# Altium schematic symbol library Resistors.SchLib: 63 symbols
Pins are listed as number, name and electrical type; pins without a type are passive.

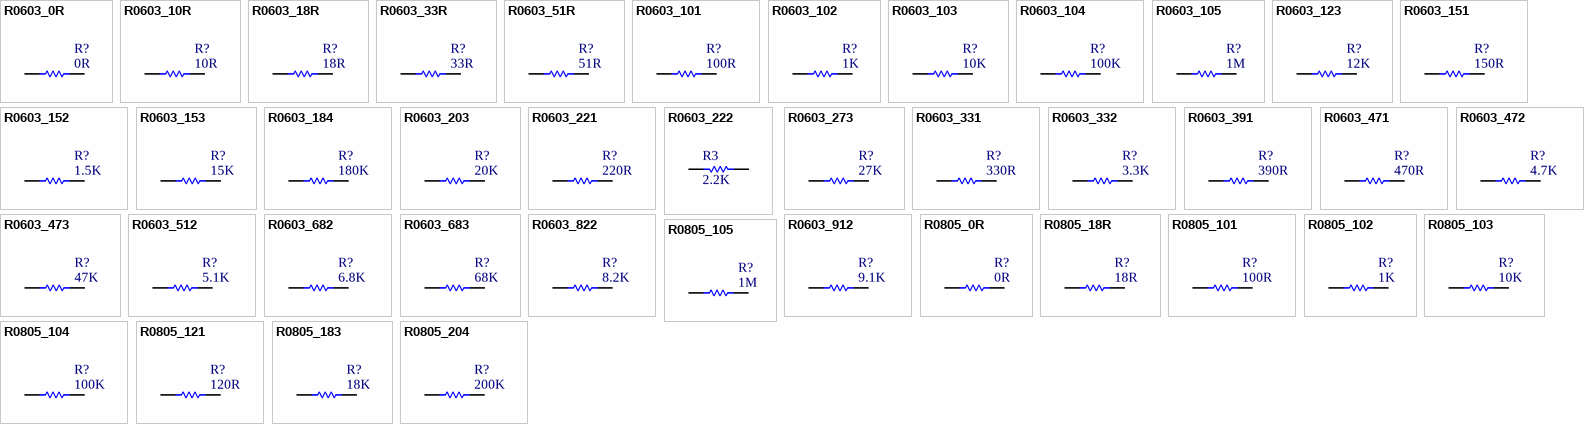
[diagram p0: symbols R0603_0R to R0805_204]

## R0603_0R
designator R?, comment 0R
Resistor smd 0603 0 Ohm; MFG: YAGEO; MFG P/N: RC0603FR-070RL; Anunda_Code: M0195; Price: 0.4; Supplier: Digikey; Value: 0R
simulation model RES (Semiconductor Resistor)
signal-integrity model Res Semi
footprint R0603XS (Chip Resistor; Body 1.6 x 0.8 mm (LxW typ))
pins: 1, 2

## R0603_10R
designator R?, comment 10R
Resistor smd 0603 10 Ohm; MFG: Stackpole Electronics Inc; MFG P/N: RMCF0603FT10R0; Anunda_Code: M0193; Price: 0.4; Supplier: Digikey; Value: 10R
simulation model RES (Semiconductor Resistor)
signal-integrity model Res Semi
footprint R0603XS (Chip Resistor; Body 1.6 x 0.8 mm (LxW typ))
pins: 1, 2

## R0603_18R
designator R?, comment 18R
Resistor smd 0603 18 Ohm; MFG: YAGEO; MFG P/N: RC0603FR-0718RL; Anunda_Code: M0630; Price: 0.4; Supplier: Digikey; Value: 18R
simulation model RES (Semiconductor Resistor)
signal-integrity model Res Semi
footprint R0603XS (Chip Resistor; Body 1.6 x 0.8 mm (LxW typ))
pins: 1, 2

## R0603_33R
designator R?, comment 33R
Resistor smd 0603 33 Ohm; MFG: Panasonic Electronic Components; MFG P/N: ERJ-3EKF33R0V; Anunda_Code: M0697; Price: 0.4; Supplier: Digikey; Value: 33R
simulation model RES (Semiconductor Resistor)
signal-integrity model Res Semi
footprint R0603XS (Chip Resistor; Body 1.6 x 0.8 mm (LxW typ))
pins: 1, 2

## R0603_51R
designator R?, comment 51R
Resistor smd 0603 51 Ohm; MFG: Panasonic Electronic Components; MFG P/N: ERJ-3EKF51R0V; Anunda_Code: M0187; Price: 0.4; Supplier: Digikey; Value: 51R
simulation model RES (Semiconductor Resistor)
signal-integrity model Res Semi
footprint R0603XS (Chip Resistor; Body 1.6 x 0.8 mm (LxW typ))
pins: 1, 2

## R0603_101
designator R?, comment 100R
Resistor smd 0603 100 Ohm; MFG: Panasonic Electronic Components; MFG P/N: ERJ-3EKF1000V; Anunda_Code: M1032; Price: 0.4; Supplier: Digikey; Value: 100R
simulation model RES (Semiconductor Resistor)
signal-integrity model Res Semi
footprint R0603XS (Chip Resistor; Body 1.6 x 0.8 mm (LxW typ))
pins: 1, 2

## R0603_102
designator R?, comment 1K
Resistor smd 0603 1 kOhm; MFG: YAGEO; MFG P/N: RC0603FR-071KL; Anunda_Code: M0189; Price: 0.4; Supplier: Digikey; Value: 1K
simulation model RES (Semiconductor Resistor)
signal-integrity model Res Semi
footprint R0603XS (Chip Resistor; Body 1.6 x 0.8 mm (LxW typ))
pins: 1, 2

## R0603_103
designator R?, comment 10K
Resistor smd 0603 10 kOhm; MFG: YAGEO; MFG P/N: RC0603FR-0710KL; Anunda_Code: M0186; Price: 0.1; Supplier: Digikey; Value: 10K
simulation model RES (Semiconductor Resistor)
signal-integrity model Res Semi
footprint R0603XS (Chip Resistor; Body 1.6 x 0.8 mm (LxW typ))
pins: 1, 2

## R0603_104
designator R?, comment 100K
Resistor smd 0603 100 kOhm; MFG: YAGEO; MFG P/N: RC0603JR-07100KL; Anunda_Code: M1115; Price: 0.4; Supplier: Digikey; Value: 100K
simulation model RES (Semiconductor Resistor)
signal-integrity model Res Semi
footprint R0603XS (Chip Resistor; Body 1.6 x 0.8 mm (LxW typ))
pins: 1, 2

## R0603_105
designator R?, comment 1M
Resistor smd 0603 1 MOhm; MFG: Panasonic Electronic Components; MFG P/N: ERJ-3EKF1004V; Anunda_Code: M1030; Price: 0.4; Supplier: Digikey; Value: 1M
simulation model RES (Semiconductor Resistor)
signal-integrity model Res Semi
footprint R0603XS (Chip Resistor; Body 1.6 x 0.8 mm (LxW typ))
pins: 1, 2

## R0603_123
designator R?, comment 12K
Resistor smd 0603 12 kOhm; MFG: YAGEO; MFG P/N: RC0603FR-0712KL; Anunda_Code: M1836; Price: 0.4; Supplier: Digikey; Value: 12K
simulation model RES (Semiconductor Resistor)
signal-integrity model Res Semi
footprint R0603XS (Chip Resistor; Body 1.6 x 0.8 mm (LxW typ))
pins: 1, 2

## R0603_151
designator R?, comment 150R
Resistor smd 0603 150 Ohm; MFG: YAGEO; MFG P/N: RC0603FR-07150RL; Anunda_Code: M0784; Price: 0.4; Supplier: Digikey; Value: 150R
simulation model RES (Semiconductor Resistor)
signal-integrity model Res Semi
footprint R0603XS (Chip Resistor; Body 1.6 x 0.8 mm (LxW typ))
pins: 1, 2

## R0603_152
designator R?, comment 1.5K
Resistor smd 0603 1.5 kOhm; MFG: YAGEO; MFG P/N: RC0603JR-071K5L; Anunda_Code: M0191; Price: 0.4; Supplier: Digikey; Value: 1.5K
simulation model RES (Semiconductor Resistor)
signal-integrity model Res Semi
footprint R0603XS (Chip Resistor; Body 1.6 x 0.8 mm (LxW typ))
pins: 1, 2

## R0603_153
designator R?, comment 15K
Resistor smd 0603 15 kOhm; MFG: Panasonic Electronic Components; MFG P/N: ERJ-3EKF1502V; Anunda_Code: M0199; Price: 0.4; Supplier: Digikey; Value: 15K
simulation model RES (Semiconductor Resistor)
signal-integrity model Res Semi
footprint R0603XS (Chip Resistor; Body 1.6 x 0.8 mm (LxW typ))
pins: 1, 2

## R0603_184
designator R?, comment 180K
Resistor smd 0603 180 kOhm; MFG: YAGEO; MFG P/N: RC0603JR-07180KL; Anunda_Code: M1117; Price: 0.4; Supplier: Digikey; Value: 180K
simulation model RES (Semiconductor Resistor)
signal-integrity model Res Semi
footprint R0603XS (Chip Resistor; Body 1.6 x 0.8 mm (LxW typ))
pins: 1, 2

## R0603_203
designator R?, comment 20K
Resistor smd 0603 20 kOhm; MFG: YAGEO; MFG P/N: RC0603FR-0720KL; Anunda_Code: M0657; Price: 0.4; Supplier: Digikey; Value: 20K
simulation model RES (Semiconductor Resistor)
signal-integrity model Res Semi
footprint R0603XS (Chip Resistor; Body 1.6 x 0.8 mm (LxW typ))
pins: 1, 2

## R0603_221
designator R?, comment 220R
Resistor smd 0603 220 Ohm; MFG: Stackpole Electronics Inc; MFG P/N: RMCF0603FT220R; Anunda_Code: M0194; Price: 0.4; Supplier: Digikey; Value: 220R
simulation model RES (Semiconductor Resistor)
signal-integrity model Res Semi
footprint R0603XS (Chip Resistor; Body 1.6 x 0.8 mm (LxW typ))
pins: 1, 2

## R0603_222
designator R3, comment 2.2K
Resistor smd 0603 2.2 kOhm; MFG: YAGEO; MFG P/N: RC0603FR-072K2L; Anunda_Code: M0778; Price: 0.4; Supplier: Digikey; Value: 2.2K
simulation model RES (Semiconductor Resistor)
signal-integrity model Res Semi
footprint R0603XS (Chip Resistor; Body 1.6 x 0.8 mm (LxW typ))
pins: 1, 2

## R0603_273
designator R?, comment 27K
Resistor smd 0603 27 kOhm; MFG: YAGEO; MFG P/N: RC0603FR-0727KL; Anunda_Code: M1765; Price: 0.4; Supplier: Digikey; Value: 27K
simulation model RES (Semiconductor Resistor)
signal-integrity model Res Semi
footprint R0603XS (Chip Resistor; Body 1.6 x 0.8 mm (LxW typ))
pins: 1, 2

## R0603_331
designator R?, comment 330R
Resistor smd 0603 330 Ohm; MFG: TE Connectivity Passive Product; MFG P/N: CRG0603F330R; Anunda_Code: M0785; Price: 0.4; Supplier: Digikey; Value: 330R
simulation model RES (Semiconductor Resistor)
signal-integrity model Res Semi
footprint R0603XS (Chip Resistor; Body 1.6 x 0.8 mm (LxW typ))
pins: 1, 2

## R0603_332
designator R?, comment 3.3K
Resistor smd 0603 3.3 kOhm; MFG: Panasonic Electronic Components; MFG P/N: ERJ-3EKF3301V; Anunda_Code: M0872; Price: 0.4; Supplier: Digikey; Value: 3.3K
simulation model RES (Semiconductor Resistor)
signal-integrity model Res Semi
footprint R0603XS (Chip Resistor; Body 1.6 x 0.8 mm (LxW typ))
pins: 1, 2

## R0603_391
designator R?, comment 390R
Resistor smd 0603 390 Ohm; MFG: Panasonic Electronic Components; MFG P/N: ERJ-3EKF3900V; Anunda_Code: M0197; Price: 0.4; Supplier: Digikey; Value: 390R
simulation model RES (Semiconductor Resistor)
signal-integrity model Res Semi
footprint R0603XS (Chip Resistor; Body 1.6 x 0.8 mm (LxW typ))
pins: 1, 2

## R0603_471
designator R?, comment 470R
Resistor smd 0603 470 Ohm; MFG: YAGEO; MFG P/N: RC0603FR-07470RL; Anunda_Code: M0682; Price: 0.4; Supplier: Digikey; Value: 470R
simulation model RES (Semiconductor Resistor)
signal-integrity model Res Semi
footprint R0603XS (Chip Resistor; Body 1.6 x 0.8 mm (LxW typ))
pins: 1, 2

## R0603_472
designator R?, comment 4.7K
Resistor smd 0603 4.7 kOhm; MFG: TE Connectivity Passive Product; MFG P/N: CRG0603F4K7; Anunda_Code: M0198; Price: 0.4; Supplier: Digikey; Value: 4.7K
simulation model RES (Semiconductor Resistor)
signal-integrity model Res Semi
footprint R0603XS (Chip Resistor; Body 1.6 x 0.8 mm (LxW typ))
pins: 1, 2

## R0603_473
designator R?, comment 47K
Resistor smd 0603 47 kOhm; MFG: YAGEO; MFG P/N: RC0603JR-1347KL; Anunda_Code: M0793; Price: 0.4; Supplier: Digikey; Value: 47K
simulation model RES (Semiconductor Resistor)
signal-integrity model Res Semi
footprint R0603XS (Chip Resistor; Body 1.6 x 0.8 mm (LxW typ))
pins: 1, 2

## R0603_512
designator R?, comment 5.1K
Resistor smd 0603 5.1 kOhm; MFG: YAGEO; MFG P/N: RC0603FR-075K1L; Anunda_Code: M2109; Price: 0.4; Supplier: Digikey; Value: 5.1K
simulation model RES (Semiconductor Resistor)
signal-integrity model Res Semi
footprint R0603XS (Chip Resistor; Body 1.6 x 0.8 mm (LxW typ))
pins: 1, 2

## R0603_682
designator R?, comment 6.8K
Resistor smd 0603 6.8 kOhm; MFG: YAGEO; MFG P/N: RC0603JR-076K8L; Anunda_Code: M0698; Price: 0.4; Supplier: Digikey; Value: 6.8K
simulation model RES (Semiconductor Resistor)
signal-integrity model Res Semi
footprint R0603XS (Chip Resistor; Body 1.6 x 0.8 mm (LxW typ))
pins: 1, 2

## R0603_683
designator R?, comment 68K
Resistor smd 0603 68 kOhm; MFG: Panasonic Electronic Components; MFG P/N: ERJ-3GEYJ683V; Anunda_Code: M0200; Price: 0.4; Supplier: Digikey; Value: 68K
simulation model RES (Semiconductor Resistor)
signal-integrity model Res Semi
footprint R0603XS (Chip Resistor; Body 1.6 x 0.8 mm (LxW typ))
pins: 1, 2

## R0603_822
designator R?, comment 8.2K
Resistor smd 0603 8.2 kOhm; MFG: Panasonic Electronic Components; MFG P/N: ERJ-3EKF8201V; Anunda_Code: M0201; Price: 0.4; Supplier: Digikey; Value: 8.2K
simulation model RES (Semiconductor Resistor)
signal-integrity model Res Semi
footprint R0603XS (Chip Resistor; Body 1.6 x 0.8 mm (LxW typ))
pins: 1, 2

## R0603_912
designator R?, comment 9.1K
Resistor smd 0603 9.1 kOhm; MFG: Panasonic Electronic Components; MFG P/N: ERJ-3EKF9101V; Anunda_Code: M0202; Price: 0.4; Supplier: Digikey; Value: 9.1K
simulation model RES (Semiconductor Resistor)
signal-integrity model Res Semi
footprint R0603XS (Chip Resistor; Body 1.6 x 0.8 mm (LxW typ))
pins: 1, 2

## R0805_0R
designator R?, comment 0R
Resistor smd 0805 0 Ohm; MFG: Stackpole Electronics Inc; MFG P/N: RMCF0805ZT0R00; Anunda_Code: M0205; Price: 0.4; Supplier: Digikey; Value: 0R
signal-integrity model Res Semi
footprint R0805XS (Chip Resistor;)
pins: 1, 2

## R0805_18R
designator R?, comment 18R
Resistor smd 0805 18 Ohm; MFG: Panasonic Electronic Components; MFG P/N: ERJ-6ENF18R0V; Anunda_Code: M0632; Price: 0.4; Supplier: Digikey; Value: 18R
simulation model RES (Semiconductor Resistor)
signal-integrity model Res Semi
footprint R0805XS (Chip Resistor;)
pins: 1, 2

## R0805_101
designator R?, comment 100R
Resistor smd 0805 100 Ohm; MFG: YAGEO; MFG P/N: RC0805FR-07100RL; Anunda_Code: M0221; Price: 0.4; Supplier: Digikey; Value: 100R
simulation model RES (Semiconductor Resistor)
signal-integrity model Res Semi
footprint R0805XS (Chip Resistor;)
pins: 1, 2

## R0805_102
designator R?, comment 1K
Resistor smd 0805 1 kOhm; MFG: YAGEO; MFG P/N: RC0805FR-071KL; Anunda_Code: M0207; Price: 0.4; Supplier: Digikey; Value: 1K
simulation model RES (Semiconductor Resistor)
signal-integrity model Res Semi
footprint R0805XS (Chip Resistor;)
pins: 1, 2

## R0805_103
designator R?, comment 10K
Resistor smd 0805 10 kOhm; MFG: YAGEO; MFG P/N: RC0805FR-0710KL; Anunda_Code: M0206; Price: 0.4; Supplier: Digikey; Value: 10K
simulation model RES (Semiconductor Resistor)
signal-integrity model Res Semi
footprint R0805XS (Chip Resistor;)
pins: 1, 2

## R0805_104
designator R?, comment 100K
Resistor smd 0805 100 kOhm; MFG: YAGEO; MFG P/N: RC0805FR-07100KL; Anunda_Code: M1460; Price: 0.4; Supplier: Digikey; Value: 100K
simulation model RES (Semiconductor Resistor)
signal-integrity model Res Semi
footprint R0805XS (Chip Resistor;)
pins: 1, 2

## R0805_105
designator R?, comment 1M
Resistor smd 0805 1 MOhm; MFG: Panasonic Electronic Components; MFG P/N: ERJ-6ENF1004V; Anunda_Code: M0208; Price: 0.4; Supplier: Digikey; Value: 1M
simulation model RES (Semiconductor Resistor)
signal-integrity model Res Semi
footprint R0805XS (Chip Resistor;)
pins: 1, 2

## R0805_121
designator R?, comment 120R
Resistor smd 0805 120 Ohm; MFG: Stackpole Electronics Inc; MFG P/N: RMCF0805FT120R; Anunda_Code: M0219; Price: 0.4; Supplier: Digikey; Value: 120R
simulation model RES (Semiconductor Resistor)
signal-integrity model Res Semi
footprint R0805XS (Chip Resistor;)
pins: 1, 2

## R0805_183
designator R?, comment 18K
Resistor smd 0805 18 kOhm; MFG: YAGEO; MFG P/N: RC0805FR-0718KL; Anunda_Code: M0222; Price: 0.4; Supplier: Digikey; Value: 18K
simulation model RES (Semiconductor Resistor)
signal-integrity model Res Semi
footprint R0805XS (Chip Resistor;)
pins: 1, 2

## R0805_204
designator R?, comment 200K
Resistor smd 0805 200 kOhm; MFG: YAGEO; MFG P/N: RC0805FR-07200KL; Anunda_Code: M1114; Price: 0.4; Supplier: Digikey; Value: 200K
simulation model RES (Semiconductor Resistor)
signal-integrity model Res Semi
footprint R0805XS (Chip Resistor;)
pins: 1, 2

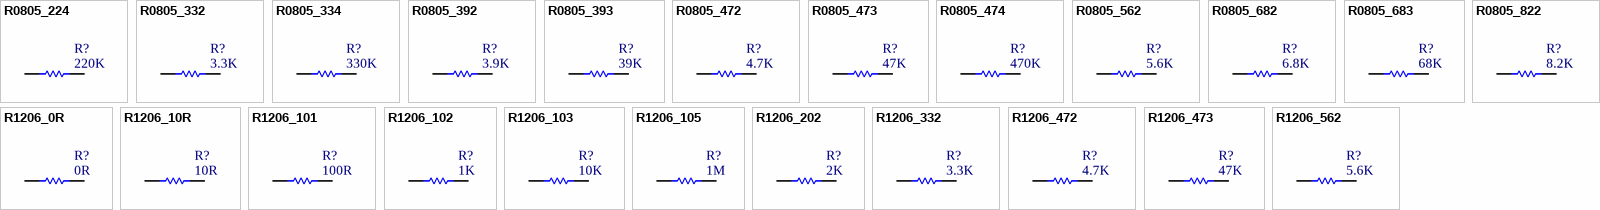
[diagram p1: symbols R0805_224 to R1206_562]

## R0805_224
designator R?, comment 220K
Resistor smd 0805 220 kOhm; MFG: YAGEO; MFG P/N: RC0805FR-07220KL; Anunda_Code: M1459; Price: 0.4; Supplier: Digikey; Value: 220K
simulation model RES (Semiconductor Resistor)
signal-integrity model Res Semi
footprint R0805XS (Chip Resistor;)
pins: 1, 2

## R0805_332
designator R?, comment 3.3K
Resistor smd 0805 3.3 kOhm; MFG: YAGEO; MFG P/N: RC0805FR-073K3L; Anunda_Code: M0213; Price: 0.4; Supplier: Digikey; Value: 3.3K
simulation model RES (Semiconductor Resistor)
signal-integrity model Res Semi
footprint R0805XS (Chip Resistor;)
pins: 1, 2

## R0805_334
designator R?, comment 330K
Resistor smd 0805 330 kOhm; MFG: YAGEO; MFG P/N: RC0805FR-07330KL; Anunda_Code: M1457; Price: 0.4; Supplier: Digikey; Value: 330K
simulation model RES (Semiconductor Resistor)
signal-integrity model Res Semi
footprint R0805XS (Chip Resistor;)
pins: 1, 2

## R0805_392
designator R?, comment 3.9K
Resistor smd 0805 3.9 kOhm; MFG: YAGEO; MFG P/N: RC0805FR-073K9L; Anunda_Code: M1476; Price: 0.4; Supplier: Digikey; Value: 3.9K
simulation model RES (Semiconductor Resistor)
signal-integrity model Res Semi
footprint R0805XS (Chip Resistor;)
pins: 1, 2

## R0805_393
designator R?, comment 39K
Resistor smd 0805 39 kOhm; MFG: YAGEO; MFG P/N: RC0805FR-0739KL; Anunda_Code: M1479; Price: 0.4; Supplier: Digikey; Value: 39K
simulation model RES (Semiconductor Resistor)
signal-integrity model Res Semi
footprint R0805XS (Chip Resistor;)
pins: 1, 2

## R0805_472
designator R?, comment 4.7K
Resistor smd 0805 4.7 kOhm; MFG: YAGEO; MFG P/N: RC0805FR-074K7L; Anunda_Code: M0659; Price: 0.4; Supplier: Digikey; Value: 4.7K
simulation model RES (Semiconductor Resistor)
signal-integrity model Res Semi
footprint R0805XS (Chip Resistor;)
pins: 1, 2

## R0805_473
designator R?, comment 47K
Resistor smd 0805 47 kOhm; MFG: YAGEO; MFG P/N: RC0805FR-0747KL; Anunda_Code: M1456; Price: 0.4; Supplier: Digikey; Value: 47K
simulation model RES (Semiconductor Resistor)
signal-integrity model Res Semi
footprint R0805XS (Chip Resistor;)
pins: 1, 2

## R0805_474
designator R?, comment 470K
Resistor smd 0805 470 kOhm; MFG: YAGEO; MFG P/N: RC0805FR-07470KL; Anunda_Code: M1455; Price: 0.4; Supplier: Digikey; Value: 470K
simulation model RES (Semiconductor Resistor)
signal-integrity model Res Semi
footprint R0805XS (Chip Resistor;)
pins: 1, 2

## R0805_562
designator R?, comment 5.6K
Resistor smd 0805 5.6 kOhm; MFG: stackpole Electronics Inc; MFG P/N: RMCF0805FT5K60; Anunda_Code: M0696; Price: 0.4; Supplier: Digikey; Value: 5.6K
simulation model RES (Semiconductor Resistor)
signal-integrity model Res Semi
footprint R0805XS (Chip Resistor;)
pins: 1, 2

## R0805_682
designator R?, comment 6.8K
Resistor smd 0805 6.8 kOhm; MFG: YAGEO; MFG P/N: RC0805FR-076K8L; Anunda_Code: M1452; Price: 0.4; Supplier: Digikey; Value: 6.8K
simulation model RES (Semiconductor Resistor)
signal-integrity model Res Semi
footprint R0805XS (Chip Resistor;)
pins: 1, 2

## R0805_683
designator R?, comment 68K
Resistor smd 0805 68 kOhm; MFG: stackpole Electronics Inc; MFG P/N: RMCF0805FT68K0; Anunda_Code: M1451; Price: 0.4; Supplier: Digikey; Value: 68K
simulation model RES (Semiconductor Resistor)
signal-integrity model Res Semi
footprint R0805XS (Chip Resistor;)
pins: 1, 2

## R0805_822
designator R?, comment 8.2K
Resistor smd 0805 8.2 kOhm; MFG: Royalohm Electronic; MFG P/N: 0805WAG0822T5E; Anunda_Code: M2027; Price: 0.4; Supplier: Digikey; Value: 8.2K
simulation model RES (Semiconductor Resistor)
signal-integrity model Res Semi
footprint R0805XS (Chip Resistor;)
pins: 1, 2

## R1206_0R
designator R?, comment 0R
Resistor smd 1206 0 Ohm; MFG: YAGEO; MFG P/N: RC1206JR-070RL; Anunda_Code: M0223; Price: 0.4; Supplier: Digikey; Value: 0R
simulation model RES (Semiconductor Resistor)
signal-integrity model Res Semi
footprint R1206X (Chip Resistor;)
pins: 1, 2

## R1206_10R
designator R?, comment 10R
Resistor smd 1206 10 Ohm; MFG: Stackpole Electronics Inc; MFG P/N: RMCF1206FT10R0; Anunda_Code: M0871; Price: 0.4; Supplier: Digikey; Value: 10R
simulation model RES (Semiconductor Resistor)
signal-integrity model Res Semi
footprint R1206X (Chip Resistor;)
pins: 1, 2

## R1206_101
designator R?, comment 100R
Resistor smd 1206 100 Ohm; MFG: Stackpole Electronics Inc; MFG P/N: RMCF1206FG100R; Anunda_Code: M0231; Price: 0.4; Supplier: Digikey; Value: 100R
simulation model RES (Semiconductor Resistor)
signal-integrity model Res Semi
footprint R1206X (Chip Resistor;)
pins: 1, 2

## R1206_102
designator R?, comment 1K
Resistor smd 1206 1 kOhm; MFG: YAGEO; MFG P/N: RC1206FR-071KL; Anunda_Code: M0695; Price: 0.4; Supplier: Digikey; Value: 1K
simulation model RES (Semiconductor Resistor)
signal-integrity model Res Semi
footprint R1206X (Chip Resistor;)
pins: 1, 2

## R1206_103
designator R?, comment 10K
Resistor smd 1206 10 kOhm; MFG: YAGEO; MFG P/N: RC1206FR-0710KL; Anunda_Code: M0224; Price: 0.4; Supplier: Digikey; Value: 10K
simulation model RES (Semiconductor Resistor)
signal-integrity model Res Semi
footprint R1206X (Chip Resistor;)
pins: 1, 2

## R1206_105
designator R?, comment 1M
Resistor smd 1206 1 MOhm; MFG: YAGEO; MFG P/N: RC1206JR-071ML; Anunda_Code: M0824; Price: 0.4; Supplier: Digikey; Value: 1M
simulation model RES (Semiconductor Resistor)
signal-integrity model Res Semi
footprint R1206X (Chip Resistor;)
pins: 1, 2

## R1206_202
designator R?, comment 2K
Resistor smd 1206 2 kOhm; MFG: YAGEO; MFG P/N: RC1206FR-072KL; Anunda_Code: M0225; Price: 0.4; Supplier: Digikey; Value: 2K
simulation model RES (Semiconductor Resistor)
signal-integrity model Res Semi
footprint R1206X (Chip Resistor;)
pins: 1, 2

## R1206_332
designator R?, comment 3.3K
Resistor smd 1206 3.3 kOhm; MFG: YAGEO; MFG P/N: RC1206JR-073K3L; Anunda_Code: M0683; Price: 0.4; Supplier: Digikey; Value: 3.3K
simulation model RES (Semiconductor Resistor)
signal-integrity model Res Semi
footprint R1206X (Chip Resistor;)
pins: 1, 2

## R1206_472
designator R?, comment 4.7K
Resistor smd 1206 4.7 kOhm; MFG: YAGEO; MFG P/N: RC1206FR-074K7L; Anunda_Code: M0699; Price: 0.4; Supplier: Digikey; Value: 4.7K
simulation model RES (Semiconductor Resistor)
signal-integrity model Res Semi
footprint R1206X (Chip Resistor;)
pins: 1, 2

## R1206_473
designator R?, comment 47K
Resistor smd 1206 47 kOhm; MFG: YAGEO; MFG P/N: RC1206FR-0747KL; Anunda_Code: M1509; Price: 0.4; Supplier: Digikey; Value: 47K
simulation model RES (Semiconductor Resistor)
signal-integrity model Res Semi
footprint R1206X (Chip Resistor;)
pins: 1, 2

## R1206_562
designator R?, comment 5.6K
Resistor smd 1206 5.6 kOhm; MFG: YAGEO; MFG P/N: RC1206FR-075K6L; Anunda_Code: M1169; Price: 0.4; Supplier: Digikey; Value: 5.6K
simulation model RES (Semiconductor Resistor)
signal-integrity model Res Semi
footprint R1206X (Chip Resistor;)
pins: 1, 2